# Altium schematic symbol library Diver Board V1.0.SchLib: 10 symbols
Pins are listed as number, name and electrical type; pins without a type are passive.

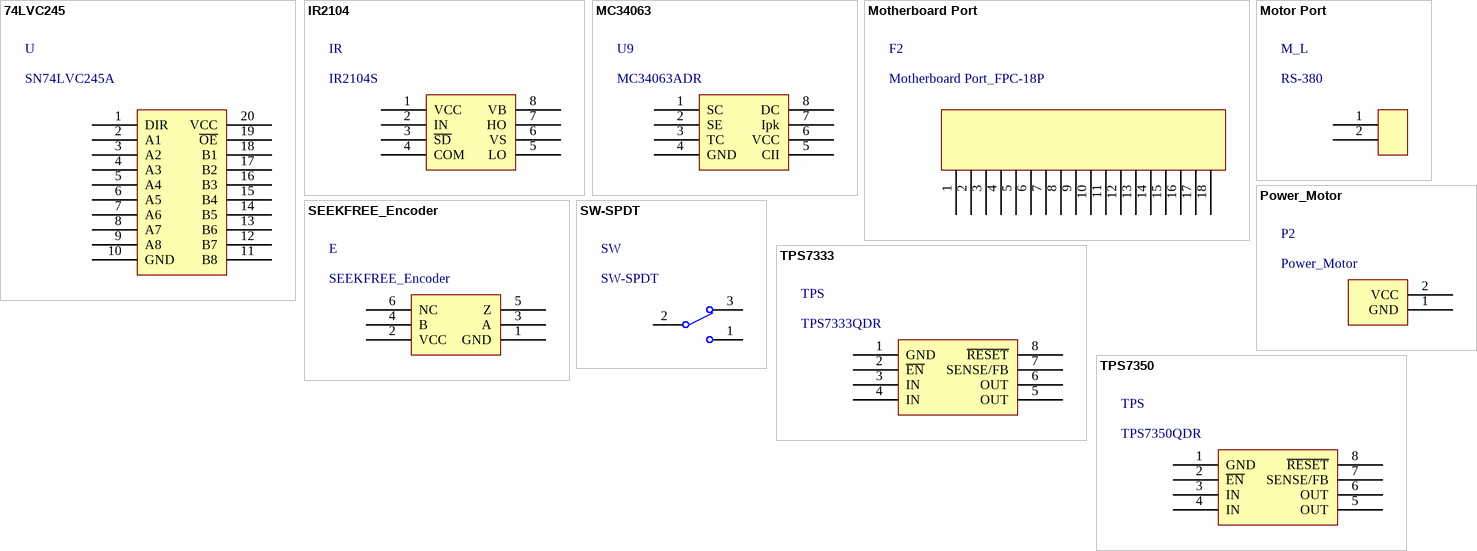
[diagram p0: symbols 74LVC245 to TPS7350]

## 74LVC245
designator U, comment SN74LVC245A
pins: 1 DIR, 2 A1, 3 A2, 4 A3, 5 A4, 6 A5, 7 A6, 8 A7, 9 A8, 10 GND, 11 B8, 12 B7, 13 B6, 14 B5, 15 B4, 16 B3, 17 B2, 18 B1, 19 ~{OE}, 20 VCC

## IR2104
designator IR, comment IR2104S
pins: 1 VCC, 2 IN, 3 ~{SD}, 4 COM, 5 LO, 6 VS, 7 HO, 8 VB

## MC34063
designator U9, comment MC34063ADR
pins: 1 SC, 2 SE, 3 TC, 4 GND, 5 CII, 6 VCC, 7 Ipk, 8 DC

## Motherboard Port
designator F2, comment Motherboard Port_FPC-18P
pins: 1, 2, 3, 4, 5, 6, 7, 8, 9, 10, 11, 12, 13, 14, 15, 16, 17, 18

## Motor Port
designator M_L, comment RS-380
pins: 1, 2

## Power_Motor
designator P2
pins: 1 GND, 2 VCC

## SEEKFREE_Encoder
designator E
pins: 1 GND, 2 VCC, 3 A, 4 B, 5 Z, 6 NC

## SW-SPDT
designator SW
pins: 1, 2, 3

## TPS7333
designator TPS, comment TPS7333QDR
pins: 1 GND, 2 ~{EN}, 3 IN, 4 IN, 5 OUT, 6 OUT, 7 SENSE/FB, 8 ~{RESET}

## TPS7350
designator TPS, comment TPS7350QDR
pins: 1 GND, 2 ~{EN}, 3 IN, 4 IN, 5 OUT, 6 OUT, 7 SENSE/FB, 8 ~{RESET}